# Altium footprint library MISC.PcbLib: 21 footprints (part 2 of 2)
Each footprint in its own frame and in the unit in brackets; x right, y up, seen from the top. Pads: shape width x height; smd on the part's side, far side on the other; paste and mask are expansions set on the pad; w line width, h text height; cw(c..) or ccw(c..) is an arc to the next point about the centre after c.
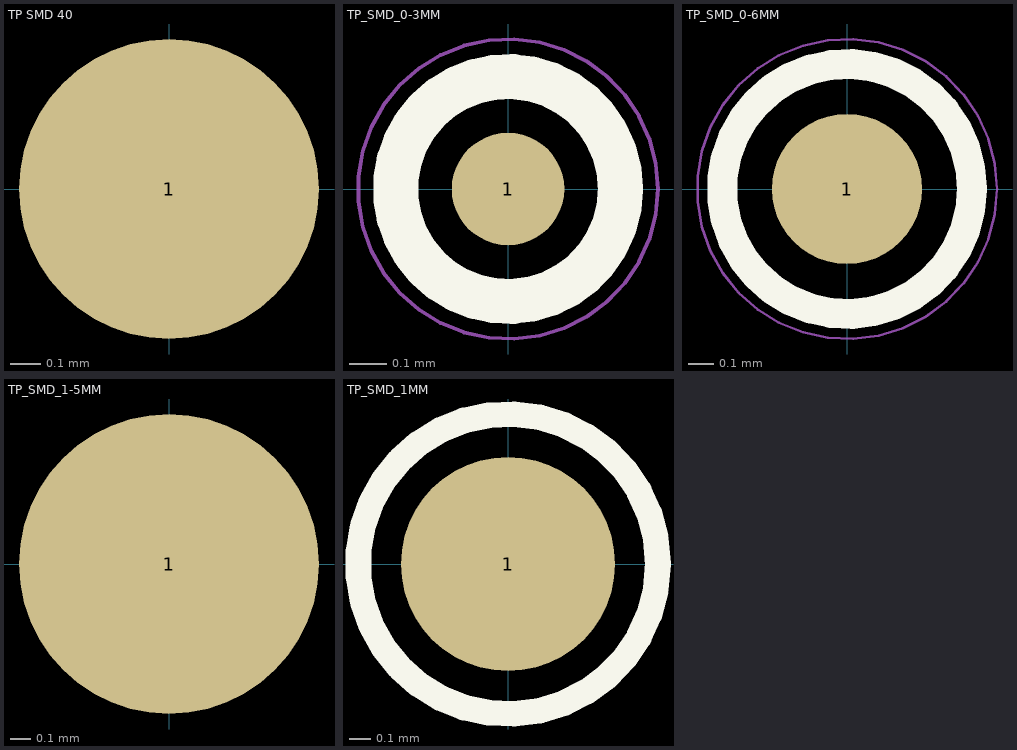
[diagram p1: the footprints below, top view; thin cyan lines are the x and y axes]

## TP SMD 40 [mm] "TP SMD R40"
pads (1):
  round 1 smd mask+0.05: 1(0,0)
Mechanical 15:
  lines w0.1: -0.3,0 0.3,0 ; 0,-0.3 0,0.3

## TP_SMD_0-3MM [mm]
pads (1):
  round 0.3 smd paste-10 mask+0.05: 1(0,0)
Top Overlay:
  circle w0.12: c0,0 r0.3
Mechanical 16:
  circle w0.01: c0,0 r0.4

## TP_SMD_0-6MM [mm]
pads (1):
  round 0.6 smd paste-10 mask+0.05: 1(0,0)
Top Overlay:
  circle w0.12: c0,0 r0.5
Mechanical 16:
  circle w0.01: c0,0 r0.6

## TP_SMD_1-5MM [mm] "TP SMD R1.5mm"
pads (1):
  round 1.5 smd mask+0.05: 1(0,0)
Mechanical 15:
  lines w0.1: -0.3,0 0.3,0 ; 0,-0.3 0,0.3

## TP_SMD_1MM [mm]
pads (1):
  round 1 smd paste-10 mask+0.05: 1(0,0)
Top Overlay:
  circle w0.12: c0,0 r0.7